# Altium schematic symbol library LED.SchLib: 1 symbol
Pins are listed as number, name and electrical type; pins without a type are passive.

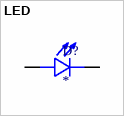
[diagram p0: symbol LED]

## LED
designator D?
THROUGH HOLE; MF: Optek; MP: OVLFR3C7; SnapEDA_Link: https://www.snapeda.com/parts/OVLFR3C7/Optek/view-part/?ref=snap; Package: Radial Optek; Value: *; Check_prices: https://www.snapeda.com/parts/OVLFR3C7/Optek/view-part/?ref=eda
footprint LEDRD254W51D580H870
pins: 1 A, 2 C